# EAGLE library part 739-166 (library con-wago_739)
Serie 739, Klemmenleiste für Leiterplatten 1 Lötstift/Pol / Series 739, PCB terminal strip 1 solder pin/pole Polzahl / Pole No.: 16 Rastermaß / Pitch: 5.08 mm Bemessungsspannung / Rated Voltage: 320 V Nennstrom / Nominal Current: 24 A Leiterquerschnitt / Conductor Size: 0.08 - 2.5 mm² Anschlusstechnik / Connection Technology: CAGE CLAMP® Lötstiftlänge: / Solder Pin Length: 3.2 mm Leitereinführung (zur Platine) / Conductor entry angle (to PCB): 90 ° Farbe / Color: orange / orange Stand: 01.01.2012. Die jeweils aktuellen Daten zu diesem Artikel finden Sie in unserem Produktkatalog, den Sie unter www.wago.com einsehen können. As of: 01/01/2012. Please find the newest data for this article in our product catalogue, which can be viewed under www.wago.com.
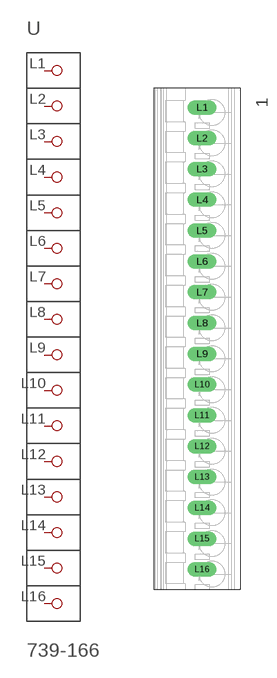
[diagram p86: symbol with the pads of P-739-166; footprint P-739-166]

Designator prefix -

## 739-166  [P-739-166]
L1  P1
L2  P2
L3  P3
L4  P4
L5  P5
L6  P6
L7  P7
L8  P8
L9  P9
L10  P10
L11  P11
L12  P12
L13  P13
L14  P14
L15  P15
L16  P16

## Footprint P-739-166 (pad centres in mm)
drill 1.6 long: L1 0.85,38.15; L2 0.85,33.07; L3 0.85,27.99; L4 0.85,22.91; L5 0.85,17.83; L6 0.85,12.75; L7 0.85,7.67; L8 0.85,2.59; L9 0.85,-2.49; L10 0.85,-7.57; L11 0.85,-12.65; L12 0.85,-17.73; L13 0.85,-22.81; L14 0.85,-27.89; L15 0.85,-32.97; L16 0.85,-38.05